# Altium integrated library screw terminal block 2.IntLib: 1 symbol
Pins are listed as number, name and electrical type; pins without a type are passive.

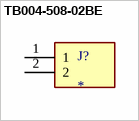
[diagram p0: symbol TB004-508-02BE]

## TB004-508-02BE
designator J?
2~24 Poles, Screw Type, Horizontal, 5.08 Pitch, 24~12 (AWG), Terminal Block Connector; MF: Same Sky; MP: TB004-508-02BE; SnapEDA_Link: https://www.snapeda.com/parts/TB004-508-02BE/Same+Sky/view-part/?ref=snap; Package: None; Value: *; Check_prices: https://www.snapeda.com/parts/TB004-508-02BE/Same+Sky/view-part/?ref=eda
footprint CUI_TB004-508-02BE
pins: 1, 2